# Altium integrated library TAJB475K025RNJ.IntLib: 1 symbol
Pins are listed as number, name and electrical type; pins without a type are passive.

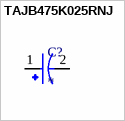
[diagram p0: symbol TAJB475K025RNJ]

## TAJB475K025RNJ
designator C?
4.7 ÂµF Molded Tantalum Capacitors 25 V 1411 (3528 Metric), 1210 1.5Ohm; MP: TAJB475K025RNJ; MF: AVX; Package: 1411 AVX Corporation; Availability: In Stock; Value: *; Purchase-URL: https://pricing.snapeda.com/search/part/TAJB475K025RNJ/?ref=eda; Check_prices: https://www.snapeda.com/parts/TAJB475K025RNJ/AVX/view-part/?ref=eda; Price: None; SnapEDA_Link: https://www.snapeda.com/parts/TAJB475K025RNJ/AVX/view-part/?ref=snap
footprint CAPMP3516X190N
pins: 1, 2